# Altium schematic symbol library SRP7030CA-4R7M.SchLib: 1 symbol
Pins are listed as number, name and electrical type; pins without a type are passive.

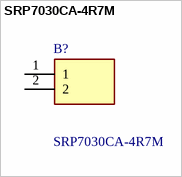
[diagram p0: symbol SRP7030CA-4R7M]

## SRP7030CA-4R7M
designator B?
Fixed Inductors Ind,7.8x7.6x2.9mm,4.7uH 20%,9A,Shd,SMD; Manufacturer_Name: Bourns; Geometry.Height: 3.1mm; Mouser Part Number: 652-SRP7030CA-4R7M; Mouser Price/Stock: https://www.mouser.co.uk/ProductDetail/Bourns/SRP7030CA-4R7M?qs=PzGy0jfpSMvKDOfDezgaiA%3D%3D; Manufacturer_Part_Number: SRP7030CA-4R7M; Datasheet Link: https://componentsearchengine.com/Datasheets/1/SRP7030CA-4R7M.pdf
footprint SRP7030CA2R2M
pins: 1, 2